# Altium schematic symbol library AMS.SchLib: 1 symbol
Pins are listed as number, name and electrical type; pins without a type are passive.

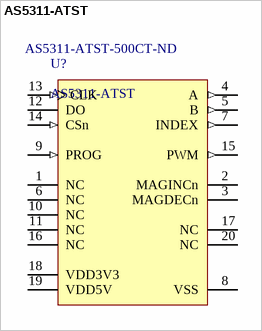
[diagram p0: symbol AS5311-ATST]

## AS5311-ATST
designator U?  Supplier Part Number 1: AS5311-ATST-500CT-ND
12-bit Linear Incremental Position Sensor with Digital Interface, 3.3 or 5 V, TSSOP-20, Pb-Free, Reel; MPN: AS5311-ATST-500; Manufacturer: AMS; Resolution: 0.488 Âµm absolute 1.95 Âµm incremental; Output: incremental A & B with index; absolute serial + PWM output; Supply Voltage (V): 3.3 or 5.0; ComponentLink2Description: Datasheet; PackageDescription: 20-Pin Thin Shrink Small Outline Package, 6.5 x 4.4 mm Body, 0.65 mm Pitch; PackageVersion: Rev. 1.9, 11/2012; ComponentLink1URL: www.ams.com; ComponentLink1Description: Manufacturer URL; ComponentLink2URL: http://www.ams.com/eng/content/download/17954/325059/15366; DatasheetVersion: Rev. 1.12; PackageReference: TSSOP-20; Mounting Technology: Surface Mount; Features: high resolution, linear movement measurement using multi-pole magnetic strips, circular off-axis movement measurement using multi-pole magnetic rings; Supplier 1: Digi-Key
footprint AS5311 (TSOP, 20-Leads, Body 6.50x4.40mm, Pitch 0.65mm, IPC Medium Density)
pins: 1 NC "Must be left unconnected", 2 MAGINCn (oc) "Indicates “Red/Yellow/Green Range” depending on the distance between device and magnet", 3 MAGDECn (oc) "Indicates “Red/Yellow/Green Range” depending on the distance between device and magnet", 4 A (out) "Incremental output A", 5 B (out) "Incremental output B", 6 NC "Must be left unconnected", 7 INDEX (out) "Incremental output Index", 8 VSS (power) "Negative Supply Voltage (GND)", 9 PROG (in) "OTP Programming Input for factory programming. Connect to VSS.", 10 NC "Must be left unconnected", 11 NC "Must be left unconnected", 12 DO (hiz) "Data Output of Synchronous Serial Interface", 13 CLK (in) "Clock Input of Synchronous Serial Interface; Schmitt-Trigger input", 14 CSn (in) "Chip Select, active low; Schmitt-Trigger input, internal pull-up resistor (~50kW). Must be low to enable incremental outputs", 15 PWM (out) "Pulse Width Modulation of approx. 244Hz; 1us/step", 16 NC "Must be left unconnected", 17 NC "Must be left unconnected", 18 VDD3V3 (power) "3V-Regulator output; internally regulated from VDD5V. Connect to VDD5V for 3V supply voltage. Do not load externally.", 19 VDD5V (power) "Positive Supply Voltage, 3.0 to 5.5 V", 20 NC "Must be left unconnected"